# Altium integrated library ON Semi Audio Transistors.IntLib: 150 symbols (part 1 of 4)
Pins are listed as number, name and electrical type; pins without a type are passive.

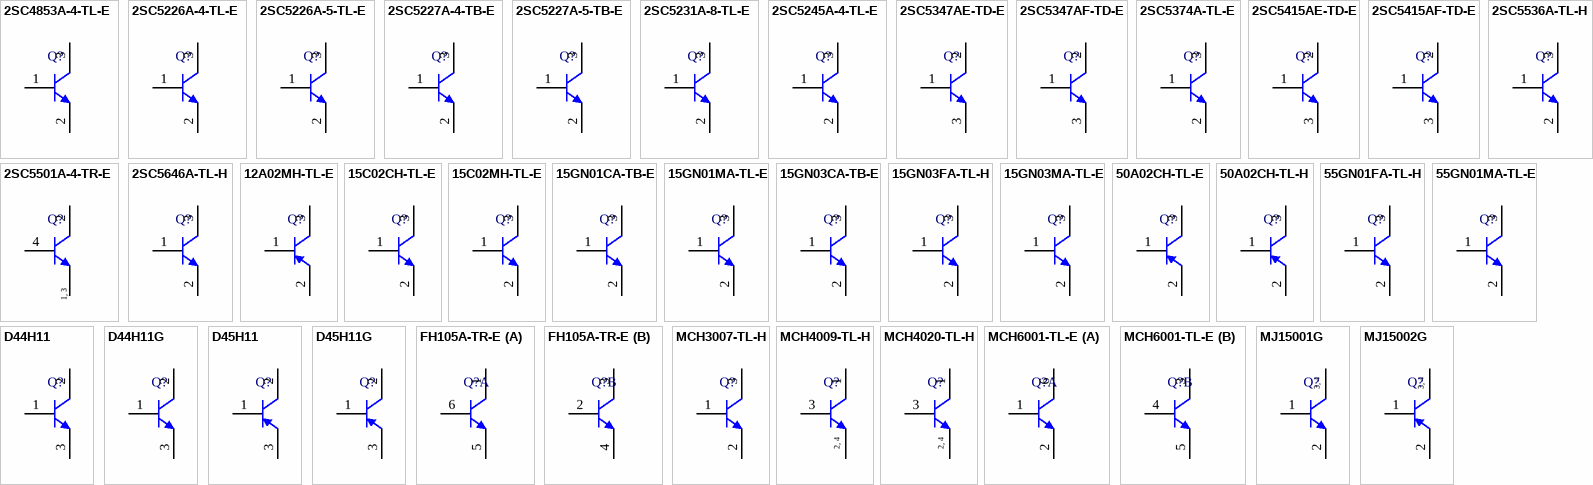
[diagram p0: symbols 2SC4853A-4-TL-E to MJ15002G]

## 2SC4853A-4-TL-E
designator Q?
RF Transistor, 6 V, 15 mA, fT=5 GHz, NPN Single, 3-Pin MCP, Pb-Free, Tape and Reel; Manufacturer: On Semiconductor; PartNumber: 2SC4853A-4-TL-E; hFE Max: 180; IC Continuous (A): 0.015; PackageReference: MCP-3; PackageDescription: 3-Pin Small Outline Transistor, Body 2 x 1.25 mm, Pitch 0.65 mm; Supplier 1: Digi-Key; Supplier Part Number 1: 2SC4853A-4-TL-E-ND; Supplier 2: Newark; Supplier Part Number 2: 07W7670; Supplier 3: Mouser; Supplier Part Number 3: 863-2SC4853A-4-TL-E; Packing: Tape and Reel; Polarity: NPN; RoHS: TRUE; Mounting Technology: Surface Mount; ComponentLink1Description: Manufacturer URL; ComponentLink1URL: http://www.onsemi.com/; ComponentLink2Description: Datasheet; ComponentLink2URL: http://www.onsemi.com/pub_link/Collateral/ENA1076-D.PDF; ComponentLink3Description: Package Specification; ComponentLink3URL: http://www.onsemi.com/pub_link/Collateral/3LP01M-D.PDF
footprint ONSC-MCP-3_V (SOT23, 3-Leads, Body 2.2x1.35mm, Pitch 0.65mm)
pins: 1 B, 2 E, 3 C

## 2SC5226A-4-TL-E
designator Q?
RF Transistor, 10 V, 70 mA, fT=7 GHz, NPN Single, 3-Pin MCP, Pb-Free, Tape and Reel; Manufacturer: On Semiconductor; PartNumber: 2SC5226A-4-TL-E; fT Min (MHz): 5000; hFE Max: 180; IC Continuous (A): 0.07; PackageReference: MCP-3; PackageDescription: 3-Pin Small Outline Transistor, Body 2 x 1.25 mm, Pitch 0.65 mm; Supplier 1: Digi-Key; Supplier Part Number 1: 2SC5226A-4-TL-E-ND; Supplier 2: Mouser; Supplier Part Number 2: 863-2SC5226A-4-TL-E; Packing: Tape and Reel; Polarity: NPN; RoHS: TRUE; Mounting Technology: Surface Mount; ComponentLink1Description: Manufacturer URL; ComponentLink1URL: http://www.onsemi.com/; ComponentLink2Description: Datasheet; ComponentLink2URL: http://www.onsemi.com/pub_link/Collateral/2SC5226A-D.PDF; ComponentLink3Description: Package Specification; ComponentLink3URL: http://www.onsemi.com/pub_link/Collateral/3LP01M-D.PDF
footprint ONSC-MCP-3_V (SOT23, 3-Leads, Body 2.2x1.35mm, Pitch 0.65mm)
pins: 1 B, 2 E, 3 C

## 2SC5226A-5-TL-E
designator Q?
RF Transistor, 10 V, 70 mA, fT=7 GHz, NPN Single, 3-Pin MCP, Pb-Free, Tape and Reel; Manufacturer: On Semiconductor; PartNumber: 2SC5226A-5-TL-E; fT Min (MHz): 5000; hFE Max: 270; IC Continuous (A): 0.07; PackageReference: MCP-3; PackageDescription: 3-Pin Small Outline Transistor, Body 2 x 1.25 mm, Pitch 0.65 mm; Supplier 1: Digi-Key; Supplier Part Number 1: 2SC5226A-5-TL-E-ND; Supplier 2: Mouser; Supplier Part Number 2: 863-2SC5226A-5-TL-E; Packing: Tape and Reel; Polarity: NPN; RoHS: TRUE; Mounting Technology: Surface Mount; ComponentLink1Description: Manufacturer URL; ComponentLink1URL: http://www.onsemi.com/; ComponentLink2Description: Datasheet; ComponentLink2URL: http://www.onsemi.com/pub_link/Collateral/2SC5226A-D.PDF; ComponentLink3Description: Package Specification; ComponentLink3URL: http://www.onsemi.com/pub_link/Collateral/3LP01M-D.PDF
footprint ONSC-MCP-3_V (SOT23, 3-Leads, Body 2.2x1.35mm, Pitch 0.65mm)
pins: 1 B, 2 E, 3 C

## 2SC5227A-4-TB-E
designator Q?
RF Transistor, 10 V, 70 mA, fT=7 GHz, NPN Single, 3-Pin CP, Pb-Free, Tape and Reel; Manufacturer: On Semiconductor; PartNumber: 2SC5227A-4-TB-E; fT Min (MHz): 5000; hFE Max: 180; IC Continuous (A): 0.07; PackageReference: CP-3-318AN_A; PackageDescription: 3-Pin Small Outline Transistor, Body 2.9 x 1.5 mm, Pitch 0.95 mm; Supplier 1: Digi-Key; Supplier Part Number 1: 2SC5227A-4-TB-E-ND; Supplier 2: Mouser; Supplier Part Number 2: 863-2SC5227A-4-TB-E; Packing: Tape and Reel; Polarity: NPN; RoHS: TRUE; Mounting Technology: Surface Mount; ComponentLink1Description: Manufacturer URL; ComponentLink1URL: http://www.onsemi.com/; ComponentLink2Description: Datasheet; ComponentLink2URL: http://www.onsemi.com/pub_link/Collateral/2SC5227A-D.PDF; ComponentLink3Description: Package Specification; ComponentLink3URL: http://www.onsemi.com/pub_link/Collateral/EN6619-D.PDF
footprint ONSC-CP-3-318AN_A_V (SOT23, 3-Leads, Body 2.9x1.5mm, Pitch 0.95mm)
pins: 1 B, 2 E, 3 C

## 2SC5227A-5-TB-E
designator Q?
RF Transistor, 10 V, 70 mA, fT=7 GHz, NPN Single, 3-Pin CP, Pb-Free, Tape and Reel; Manufacturer: On Semiconductor; PartNumber: 2SC5227A-5-TB-E; fT Min (MHz): 5000; hFE Max: 270; IC Continuous (A): 0.07; PackageReference: CP-3-318AN_A; PackageDescription: 3-Pin Small Outline Transistor, Body 2.9 x 1.5 mm, Pitch 0.95 mm; Supplier 1: Digi-Key; Supplier Part Number 1: 2SC5227A-5-TB-E-ND; Supplier 2: Newark; Supplier Part Number 2: 52T9075; Supplier 3: Mouser; Supplier Part Number 3: 863-2SC5227A-5-TB-E; Packing: Tape and Reel; Polarity: NPN; RoHS: TRUE; Mounting Technology: Surface Mount; ComponentLink1Description: Manufacturer URL; ComponentLink1URL: http://www.onsemi.com/; ComponentLink2Description: Datasheet; ComponentLink2URL: http://www.onsemi.com/pub_link/Collateral/2SC5227A-D.PDF; ComponentLink3Description: Package Specification; ComponentLink3URL: http://www.onsemi.com/pub_link/Collateral/EN6619-D.PDF
footprint ONSC-CP-3-318AN_A_V (SOT23, 3-Leads, Body 2.9x1.5mm, Pitch 0.95mm)
pins: 1 B, 2 E, 3 C

## 2SC5231A-8-TL-E
designator Q?
RF Transistor, 10 V, 70 mA, fT=7 GHz, NPN Single, 3-Pin SMCP, Pb-Free, Tape and Reel; Manufacturer: On Semiconductor; PartNumber: 2SC5231A-8-TL-E; fT Min (MHz): 5000; hFE Max: 180; IC Continuous (A): 0.07; PackageReference: SMCP-3; PackageDescription: 3-Pin Small Outline Transistor, Body 1.6 x 0.8 mm, Pitch 0.5 mm; Supplier 1: Digi-Key; Supplier Part Number 1: 2SC5231A-8-TL-E-ND; Supplier 2: Mouser; Supplier Part Number 2: 863-2SC5231A-8-TL-E; Packing: Tape and Reel; Polarity: NPN; RoHS: TRUE; Mounting Technology: Surface Mount; ComponentLink1Description: Manufacturer URL; ComponentLink1URL: http://www.onsemi.com/; ComponentLink2Description: Datasheet; ComponentLink2URL: http://www.onsemi.com/pub_link/Collateral/ENA1077-D.PDF; ComponentLink3Description: Package Specification; ComponentLink3URL: http://www.onsemi.com/pub_link/Collateral/3LN01S-D.PDF
footprint ONSC-SMCP-3_V (SOT23, 3-Leads, Body 1.6x0.8mm, Pitch 0.5mm)
pins: 1 B, 2 E, 3 C

## 2SC5245A-4-TL-E
designator Q?
RF Transistor, 10 V, 30 mA, fT=8 GHz, NPN Single, 3-Pin MCP, Pb-Free, Tape and Reel; Manufacturer: On Semiconductor; PartNumber: 2SC5245A-4-TL-E; fT Min (MHz): 5000; hFE Max: 180; IC Continuous (A): 0.03; PackageReference: MCP-3; PackageDescription: 3-Pin Small Outline Transistor, Body 2 x 1.25 mm, Pitch 0.65 mm; Supplier 1: Digi-Key; Supplier Part Number 1: 2SC5245A-4-TL-E-ND; Supplier 2: Mouser; Supplier Part Number 2: 863-2SC5245A-4-TL-E; Packing: Tape and Reel; Polarity: NPN; RoHS: TRUE; Mounting Technology: Surface Mount; ComponentLink1Description: Manufacturer URL; ComponentLink1URL: http://www.onsemi.com/; ComponentLink2Description: Datasheet; ComponentLink2URL: http://www.onsemi.com/pub_link/Collateral/2SC5245A-D.PDF; ComponentLink3Description: Package Specification; ComponentLink3URL: http://www.onsemi.com/pub_link/Collateral/3LP01M-D.PDF
footprint ONSC-MCP-3_V (SOT23, 3-Leads, Body 2.2x1.35mm, Pitch 0.65mm)
pins: 1 B, 2 E, 3 C

## 2SC5347AE-TD-E
designator Q?
RF Transistor, 12 V, 150 mA, fT=4.7 GHz, NPN Single, 3-Pin SOT-89, Pb-Free, Tape and Reel; Manufacturer: On Semiconductor; PartNumber: 2SC5347AE-TD-E; fT Min (MHz): 3000; hFE Max: 180; IC Continuous (A): 0.15; PackageVersion: Rev. O, 04/2012; PackageReference: SOT-89_PCP-1-3-419AU; PackageDescription: 3-Pin Small Outline Transistor, Body 4.5 x 2.5 mm, Pitch 1.5 mm; Supplier 1: Digi-Key; Supplier Part Number 1: 2SC5347AE-TD-E-ND; Supplier 2: Mouser; Supplier Part Number 2: 863-2SC5347AE-TD-E; Packing: Tape and Reel; Polarity: NPN; RoHS: TRUE; Mounting Technology: Surface Mount; ComponentLink1Description: Manufacturer URL; ComponentLink1URL: http://www.onsemi.com/; ComponentLink2Description: Datasheet; ComponentLink2URL: http://www.onsemi.com/pub_link/Collateral/ENA1087-D.PDF; ComponentLink3Description: Package Specification; ComponentLink3URL: http://www.onsemi.com/pub_link/Collateral/ENA1087-D.PDF
footprint ONSC-SOT-89_PCP-1-3-419AU_V (SOT89, 3-Leads, Body 4.5x2.5mm, Pitch 1.5mm)
pins: 1 B, 2 C, 3 E

## 2SC5347AF-TD-E
designator Q?
RF Transistor, 12 V, 150 mA, fT=4.7 GHz, NPN Single, 3-Pin SOT-89, Pb-Free, Tape and Reel; Manufacturer: On Semiconductor; PartNumber: 2SC5347AF-TD-E; fT Min (MHz): 3000; hFE Max: 270; IC Continuous (A): 0.15; PackageVersion: Rev. O, 04/2012; PackageReference: SOT-89_PCP-1-3-419AU; PackageDescription: 3-Pin Small Outline Transistor, Body 4.5 x 2.5 mm, Pitch 1.5 mm; Supplier 1: Digi-Key; Supplier Part Number 1: 2SC5347AF-TD-E-ND; Supplier 2: Mouser; Supplier Part Number 2: 863-2SC5347AF-TD-E; Packing: Tape and Reel; Polarity: NPN; RoHS: TRUE; Mounting Technology: Surface Mount; ComponentLink1Description: Manufacturer URL; ComponentLink1URL: http://www.onsemi.com/; ComponentLink2Description: Datasheet; ComponentLink2URL: http://www.onsemi.com/pub_link/Collateral/ENA1087-D.PDF; ComponentLink3Description: Package Specification; ComponentLink3URL: http://www.onsemi.com/pub_link/Collateral/ENA1087-D.PDF
footprint ONSC-SOT-89_PCP-1-3-419AU_V (SOT89, 3-Leads, Body 4.5x2.5mm, Pitch 1.5mm)
pins: 1 B, 2 C, 3 E

## 2SC5374A-TL-E
designator Q?
RF Transistor, 10 V, 100 mA, fT=5.2 GHz, NPN Single, 3-Pin SMCP, Pb-Free, Tape and Reel; Manufacturer: On Semiconductor; PartNumber: 2SC5374A-TL-E; fT Min (MHz): 3000; hFE Max: 180; IC Continuous (A): 0.1; PackageReference: SMCP-3; PackageDescription: 3-Pin SOT223, Body 0.8 x 1.6 mm, Pitch 0.5 mm; Supplier 1: Digi-Key; Supplier Part Number 1: 2SC5374A-TL-E-ND; Supplier 2: Mouser; Supplier Part Number 2: 863-2SC5374A-TL-E; Packing: Tape and Reel; Polarity: NPN; RoHS: TRUE; Mounting Technology: Surface Mount; ComponentLink1Description: Manufacturer URL; ComponentLink1URL: http://www.onsemi.com/; ComponentLink2Description: Datasheet; ComponentLink2URL: http://www.onsemi.com/pub_link/Collateral/ENA1090-D.PDF; ComponentLink3Description: Package Specification; ComponentLink3URL: http://www.onsemi.com/pub_link/Collateral/3LN01S-D.PDF
footprint ONSC-SMCP-3_V (SOT23, 3-Leads, Body 1.6x0.8mm, Pitch 0.5mm)
pins: 1 B, 2 E, 3 C

## 2SC5415AE-TD-E
designator Q?
RF Transistor, 12 V, 100 mA, fT=6.7 GHz, NPN Single, 3-Pin SOT-89, Pb-Free, Tape and Reel; Manufacturer: On Semiconductor; PartNumber: 2SC5415AE-TD-E; fT Min (MHz): 5000; hFE Max: 180; IC Continuous (A): 0.1; PackageVersion: Rev. O, 04/2012; PackageReference: SOT-89_PCP-1-3-419AU; PackageDescription: 3-Pin Small Outline Transistor, Body 4.5 x 2.5 mm, Pitch 1.5 mm; Supplier 1: Digi-Key; Supplier Part Number 1: 2SC5415AE-TD-E-ND; Supplier 2: Mouser; Supplier Part Number 2: 863-2SC5415AE-TD-E; Packing: Tape and Reel; Polarity: NPN; RoHS: TRUE; Mounting Technology: Surface Mount; ComponentLink1Description: Manufacturer URL; ComponentLink1URL: http://www.onsemi.com/; ComponentLink2Description: Datasheet; ComponentLink2URL: http://www.onsemi.com/pub_link/Collateral/ENA1080-D.PDF; ComponentLink3Description: Package Specification; ComponentLink3URL: http://www.onsemi.com/pub_link/Collateral/ENA1087-D.PDF
footprint ONSC-SOT-89_PCP-1-3-419AU_V (SOT89, 3-Leads, Body 4.5x2.5mm, Pitch 1.5mm)
pins: 1 B, 2 C, 3 E

## 2SC5415AF-TD-E
designator Q?
RF Transistor, 12 V, 100 mA, fT=6.7 GHz, NPN Single, 3-Pin SOT-89, Pb-Free, Tape and Reel; Manufacturer: On Semiconductor; PartNumber: 2SC5415AF-TD-E; fT Min (MHz): 5000; hFE Max: 270; IC Continuous (A): 0.1; PackageVersion: Rev. O, 04/2012; PackageReference: SOT-89_PCP-1-3-419AU; PackageDescription: 3-Pin Small Outline Transistor, Body 4.5 x 2.5 mm, Pitch 1.5 mm; Supplier 1: Newark; Supplier Part Number 1: 45W5067; Supplier 2: Mouser; Supplier Part Number 2: 863-2SC5415AF-TD-E; Packing: Tape and Reel; Polarity: NPN; RoHS: TRUE; Mounting Technology: Surface Mount; ComponentLink1Description: Manufacturer URL; ComponentLink1URL: http://www.onsemi.com/; ComponentLink2Description: Datasheet; ComponentLink2URL: http://www.onsemi.com/pub_link/Collateral/ENA1080-D.PDF; ComponentLink3Description: Package Specification; ComponentLink3URL: http://www.onsemi.com/pub_link/Collateral/ENA1087-D.PDF
footprint ONSC-SOT-89_PCP-1-3-419AU_V (SOT89, 3-Leads, Body 4.5x2.5mm, Pitch 1.5mm)
pins: 1 B, 2 C, 3 E

## 2SC5501A-4-TR-E
designator Q?
RF Transistor, 10 V, 70 mA, fT=7 GHz, NPN Single, 4-Pin MCP, Pb-Free, Tape and Reel; Manufacturer: On Semiconductor; PartNumber: 2SC5501A-4-TR-E; fT Min (MHz): 5000; hFE Max: 180; IC Continuous (A): 0.07; PackageReference: MCP-4; PackageDescription: 4-Pin Small Outline Transistor, Body 2 x 1.25 mm; Supplier 1: Digi-Key; Supplier Part Number 1: 2SC5501A-4-TR-E-ND; Supplier 2: Mouser; Supplier Part Number 2: 863-2SC5501A-4-TR-E; Packing: Tape and Reel; Polarity: NPN; RoHS: TRUE; Mounting Technology: Surface Mount; ComponentLink1Description: Manufacturer URL; ComponentLink1URL: http://www.onsemi.com/; ComponentLink2Description: Datasheet; ComponentLink2URL: http://www.onsemi.com/pub_link/Collateral/ENA1061-D.PDF; ComponentLink3Description: Package Specification; ComponentLink3URL: http://www.onsemi.com/pub_link/Collateral/ENA1061-D.PDF
footprint ONSC-MCP-4_V (SOT143, 4-Leads, Body 2x1.25mm)
pins: 1 E, 2 C, 3 E, 4 B
text: 1, 3

## 2SC5536A-TL-H
designator Q?
RF Transistor, 12 V, 50 mA, fT=1.7 GHz, NPN Single, 3-Pin SSFP, Pb-Free, Tape and Reel; Manufacturer: On Semiconductor; PartNumber: 2SC5536A-TL-H; fT Min (MHz): 1000; hFE Max: 200; IC Continuous (A): 0.05; PackageReference: SSFP-3; PackageDescription: 3-Pin Small Outline Transistor, Body 1.4 x 0.8 mm, Pitch 0.45 mm; Supplier 1: Digi-Key; Supplier Part Number 1: 2SC5536A-TL-H-ND; Supplier 2: Mouser; Supplier Part Number 2: 863-2SC5536A-TL-H; Packing: Tape and Reel; Polarity: NPN; RoHS: TRUE; Mounting Technology: Surface Mount; ComponentLink1Description: Manufacturer URL; ComponentLink1URL: http://www.onsemi.com/; ComponentLink2Description: Datasheet; ComponentLink2URL: http://www.onsemi.com/pub_link/Collateral/ENA1092-D.PDF; ComponentLink3Description: Package Specification; ComponentLink3URL: http://www.onsemi.com/pub_link/Collateral/55GN01FA.PDF
footprint ONSC-SSFP-3_V (SOT23, 3-Leads, Body 1.4x0.8mm, Pitch 0.45mm)
pins: 1 B, 2 E, 3 C

## 2SC5646A-TL-H
designator Q?
RF Transistor, 4 V, 30 mA, fT=12.5 GHz, NPN Single, 3-Pin SSFP, Pb-Free, Tape and Reel; Manufacturer: On Semiconductor; PartNumber: 2SC5646A-TL-H; fT Min (MHz): 8000; hFE Max: 160; IC Continuous (A): 0.03; PackageReference: SSFP-3; PackageDescription: 3-Pin Small Outline Transistor, Body 1.4 x 0.8 mm, Pitch 0.45 mm; Supplier 1: Digi-Key; Supplier Part Number 1: 2SC5646A-TL-H-ND; Supplier 2: Newark; Supplier Part Number 2: 07W7678; Supplier 3: Mouser; Supplier Part Number 3: 863-2SC5646A-TL-H; Packing: Tape and Reel; Polarity: NPN; RoHS: TRUE; Mounting Technology: Surface Mount; ComponentLink1Description: Manufacturer URL; ComponentLink1URL: http://www.onsemi.com/; ComponentLink2Description: Datasheet; ComponentLink2URL: http://www.onsemi.com/pub_link/Collateral/ENA1120-D.PDF; ComponentLink3Description: Package Specification; ComponentLink3URL: http://www.onsemi.com/pub_link/Collateral/55GN01FA.PDF
footprint ONSC-SSFP-3_V (SOT23, 3-Leads, Body 1.4x0.8mm, Pitch 0.45mm)
pins: 1 B, 2 E, 3 C

## 12A02MH-TL-E
designator Q?
Bipolar Transistor, -12 V, -1 A, Low VCE(sat) PNP Single, 3-Pin MCPH, Pb-Free, Tape and Reel; Manufacturer: On Semiconductor; PartNumber: 12A02MH-TL-E; hFE Max: 700; PackageReference: MCPH-3; PackageDescription: 3-Pin Small Outline Transistor, Body 2 x 1.6 mm, Pitch 0.65 mm; Supplier 1: Digi-Key; Supplier Part Number 1: 12A02MH-TL-E-ND; Supplier 2: Mouser; Supplier Part Number 2: 863-12A02MH-TL-E; IC Continuous (A): -1; Packing: Tape and Reel; Polarity: PNP; RoHS: TRUE; Mounting Technology: Surface Mount; ComponentLink1Description: Manufacturer URL; ComponentLink1URL: http://www.onsemi.com/; ComponentLink2Description: Datasheet; ComponentLink2URL: http://www.onsemi.com/pub_link/Collateral/ENN7483-D.PDF; ComponentLink3Description: Package Specification; ComponentLink3URL: http://www.onsemi.com/pub_link/Collateral/EN7354-D.PDF
footprint ONSC-MCPH-3_V (SOT23, 3-Leads, Body 2x1.6mm, Pitch 0.65mm)
pins: 1 B, 2 E, 3 C

## 15C02CH-TL-E
designator Q?
Bipolar Transistor, 15 V, 1 A, Low VCE(sat) NPN Single, 3-Pin CPH, Pb-Free, Tape and Reel; Manufacturer: On Semiconductor; PartNumber: 15C02CH-TL-E; hFE Max: 800; IC Continuous (A): 1; PackageReference: CPH-3; PackageDescription: 3-Pin Small Outline Transistor, Body 2.9 x 1.6 mm, Pitch 0.95 mm; Supplier 1: Digi-Key; Supplier Part Number 1: 15C02CH-TL-E-ND; Supplier 2: Mouser; Supplier Part Number 2: 863-15C02CH-TL-E; Packing: Tape and Reel; Polarity: NPN; RoHS: TRUE; Mounting Technology: Surface Mount; ComponentLink1Description: Manufacturer URL; ComponentLink1URL: http://www.onsemi.com/; ComponentLink2Description: Datasheet; ComponentLink2URL: http://www.onsemi.com/pub_link/Collateral/EN7353-D.PDF; ComponentLink3Description: Package Specification; ComponentLink3URL: http://www.onsemi.com/pub_link/Collateral/50A02CH-D.PDF
footprint ONSC-CPH-3_V (SOT23, 3-Leads, Body 2.9x1.6mm, Pitch 0.95mm)
pins: 1 B, 2 E, 3 C

## 15C02MH-TL-E
designator Q?
Bipolar Transistor, 15 V, 1 A, Low VCE(sat) NPN Single, 3-Pin MCPH, Pb-Free, Tape and Reel; Manufacturer: On Semiconductor; PartNumber: 15C02MH-TL-E; hFE Max: 800; IC Continuous (A): 1; PackageReference: MCPH-3; PackageDescription: 3-Pin Small Outline Transistor, Body 2 x 1.6 mm, Pitch 0.65 mm; Supplier 1: Digi-Key; Supplier Part Number 1: 15C02MH-TL-E-ND; Supplier 2: Mouser; Supplier Part Number 2: 863-15C02MH-TL-E; Packing: Tape and Reel; Polarity: NPN; RoHS: TRUE; Mounting Technology: Surface Mount; ComponentLink1Description: Manufacturer URL; ComponentLink1URL: http://www.onsemi.com/; ComponentLink2Description: Datasheet; ComponentLink2URL: http://www.onsemi.com/pub_link/Collateral/EN7354-D.PDF; ComponentLink3Description: Package Specification; ComponentLink3URL: http://www.onsemi.com/pub_link/Collateral/EN7354-D.PDF
footprint ONSC-MCPH-3_V (SOT23, 3-Leads, Body 2x1.6mm, Pitch 0.65mm)
pins: 1 B, 2 E, 3 C

## 15GN01CA-TB-E
designator Q?
RF Transistor, 8 V, 50 mA, fT=1.5 GHz, NPN Single, 3-Pin CP, Pb-Free, Tape and Reel; Manufacturer: On Semiconductor; PartNumber: 15GN01CA-TB-E; fT Min (MHz): 1000; hFE Max: 400; IC Continuous (A): 0.05; PackageReference: CP-3-318AN_A; PackageDescription: 3-Pin Small Outline Transistor, Body 2.9 x 1.5 mm, Pitch 0.95 mm; Supplier 1: Digi-Key; Supplier Part Number 1: 15GN01CA-TB-E-ND; Supplier 2: Mouser; Supplier Part Number 2: 863-15GN01CA-TB-E; Packing: Tape and Reel; Polarity: NPN; RoHS: TRUE; Mounting Technology: Surface Mount; ComponentLink1Description: Manufacturer URL; ComponentLink1URL: http://www.onsemi.com/; ComponentLink2Description: Datasheet; ComponentLink2URL: http://www.onsemi.com/pub_link/Collateral/ENA1098-D.PDF; ComponentLink3Description: Package Specification; ComponentLink3URL: http://www.onsemi.com/pub_link/Collateral/EN6619-D.PDF
footprint ONSC-CP-3-318AN_A_V (SOT23, 3-Leads, Body 2.9x1.5mm, Pitch 0.95mm)
pins: 1 B, 2 E, 3 C

## 15GN01MA-TL-E
designator Q?
RF Transistor, 8 V, 50 mA, fT=1.5 GHz, NPN Single, 3-Pin MCP, Pb-Free, Tape and Reel; Manufacturer: On Semiconductor; PartNumber: 15GN01MA-TL-E; fT Min (MHz): 1000; hFE Max: 400; IC Continuous (A): 0.05; PackageReference: MCP-3; PackageDescription: 3-Pin Small Outline Transistor, Body 2 x 1.25 mm, Pitch 0.65 mm; Supplier 1: Digi-Key; Supplier Part Number 1: 15GN01MA-TL-E-ND; Supplier 2: Mouser; Supplier Part Number 2: 863-15GN01MA-TL-E; Packing: Tape and Reel; Polarity: NPN; RoHS: TRUE; Mounting Technology: Surface Mount; ComponentLink1Description: Manufacturer URL; ComponentLink1URL: http://www.onsemi.com/; ComponentLink2Description: Datasheet; ComponentLink2URL: http://www.onsemi.com/pub_link/Collateral/ENA1100-D.PDF; ComponentLink3Description: Package Specification; ComponentLink3URL: http://www.onsemi.com/pub_link/Collateral/3LP01M-D.PDF
footprint ONSC-MCP-3_V (SOT23, 3-Leads, Body 2.2x1.35mm, Pitch 0.65mm)
pins: 1 B, 2 E, 3 C

## 15GN03CA-TB-E
designator Q?
RF Transistor, 10 V, 70 mA, fT=1.5 GHz, NPN Single, 3-Pin CP, Pb-Free, Tape and Reel; Manufacturer: On Semiconductor; PartNumber: 15GN03CA-TB-E; fT Min (MHz): 1000; hFE Max: 180; IC Continuous (A): 0.07; PackageReference: CP-3-318AN_A; PackageDescription: 3-Pin Small Outline Transistor, Body 2.9 x 1.5 mm, Pitch 0.95 mm; Supplier 1: Digi-Key; Supplier Part Number 1: 15GN03CA-TB-E-ND; Supplier 2: Mouser; Supplier Part Number 2: 863-15GN03CA-TB-E; Packing: Tape and Reel; Polarity: NPN; RoHS: TRUE; Mounting Technology: Surface Mount; ComponentLink1Description: Manufacturer URL; ComponentLink1URL: http://www.onsemi.com/; ComponentLink2Description: Datasheet; ComponentLink2URL: http://www.onsemi.com/pub_link/Collateral/ENA1106-D.PDF; ComponentLink3Description: Package Specification; ComponentLink3URL: http://www.onsemi.com/pub_link/Collateral/EN6619-D.PDF
footprint ONSC-CP-3-318AN_A_V (SOT23, 3-Leads, Body 2.9x1.5mm, Pitch 0.95mm)
pins: 1 B, 2 E, 3 C

## 15GN03FA-TL-H
designator Q?
RF Transistor, 10 V, 70 mA, fT=1.5 GHz, NPN Single, 3-Pin SSFP, Pb-Free, Tape and Reel; Manufacturer: On Semiconductor; PartNumber: 15GN03FA-TL-H; fT Min (MHz): 1000; hFE Max: 180; IC Continuous (A): 0.07; PackageReference: SSFP-3; PackageDescription: 3-Pin Small Outline Transistor, Body 1.4 x 0.8 mm, Pitch 0.45 mm; Supplier 1: Digi-Key; Supplier Part Number 1: 15GN03FA-TL-H-ND; Supplier 2: Mouser; Supplier Part Number 2: 863-15GN03FA-TL-H; Packing: Tape and Reel; Polarity: NPN; RoHS: TRUE; Mounting Technology: Surface Mount; ComponentLink1Description: Manufacturer URL; ComponentLink1URL: http://www.onsemi.com/; ComponentLink2Description: Datasheet; ComponentLink2URL: http://www.onsemi.com/pub_link/Collateral/ENA1107-D.PDF; ComponentLink3Description: Package Specification; ComponentLink3URL: http://www.onsemi.com/pub_link/Collateral/55GN01FA.PDF
footprint ONSC-SSFP-3_V (SOT23, 3-Leads, Body 1.4x0.8mm, Pitch 0.45mm)
pins: 1 B, 2 E, 3 C

## 15GN03MA-TL-E
designator Q?
RF Transistor, 10 V, 70 mA, fT=1.5 GHz, NPN Single, 3-Pin MCP, Pb-Free, Tape and Reel; Manufacturer: On Semiconductor; PartNumber: 15GN03MA-TL-E; fT Min (MHz): 1000; hFE Max: 180; IC Continuous (A): 0.07; PackageReference: MCP-3; PackageDescription: 3-Pin Small Outline Transistor, Body 2 x 1.25 mm, Pitch 0.65 mm; Supplier 1: Digi-Key; Supplier Part Number 1: 15GN03MA-TL-E-ND; Supplier 2: Mouser; Supplier Part Number 2: 863-15GN03MA-TL-E; Packing: Tape and Reel; Polarity: NPN; RoHS: TRUE; Mounting Technology: Surface Mount; ComponentLink1Description: Manufacturer URL; ComponentLink1URL: http://www.onsemi.com/; ComponentLink2Description: Datasheet; ComponentLink2URL: http://www.onsemi.com/pub_link/Collateral/ENA1108-D.PDF; ComponentLink3Description: Package Specification; ComponentLink3URL: http://www.onsemi.com/pub_link/Collateral/3LP01M-D.PDF
footprint ONSC-MCP-3_V (SOT23, 3-Leads, Body 2.2x1.35mm, Pitch 0.65mm)
pins: 1 B, 2 E, 3 C

## 50A02CH-TL-E
designator Q?
Bipolar Transistor, -50 V, -0.5 A, Low VCE(sat) PNP Single, 3-Pin CPH, Pb-Free, Tape and Reel; Manufacturer: On Semiconductor; PartNumber: 50A02CH-TL-E; hFE Max: 500; PackageReference: CPH-3; PackageDescription: 3-Pin Small Outline Transistor, Body 2.9 x 1.6 mm, Pitch 0.95 mm; Supplier 1: Digi-Key; Supplier Part Number 1: 50A02CH-TL-E-ND; Supplier 2: Mouser; Supplier Part Number 2: 863-50A02CH-TL-E; IC Continuous (A): -0.5; Packing: Tape and Reel; Polarity: PNP; RoHS: TRUE; Mounting Technology: Surface Mount; ComponentLink1Description: Manufacturer URL; ComponentLink1URL: http://www.onsemi.com/; ComponentLink2Description: Datasheet; ComponentLink2URL: http://www.onsemi.com/pub_link/Collateral/50A02CH-D.PDF; ComponentLink3Description: Package Specification; ComponentLink3URL: http://www.onsemi.com/pub_link/Collateral/50A02CH-D.PDF
footprint ONSC-CPH-3_V (SOT23, 3-Leads, Body 2.9x1.6mm, Pitch 0.95mm)
pins: 1 B, 2 E, 3 C

## 50A02CH-TL-H
designator Q?
Bipolar Transistor, -50 V, -0.5 A, Low VCE(sat) PNP Single, 3-Pin CPH, Pb-Free, Tape and Reel; Manufacturer: On Semiconductor; PartNumber: 50A02CH-TL-H; hFE Max: 500; PackageReference: CPH-3; PackageDescription: 3-Pin Small Outline Transistor, Body 2.9 x 1.6 mm, Pitch 0.95 mm; Supplier 1: Digi-Key; Supplier Part Number 1: 50A02CH-TL-H-ND; Supplier 2: Mouser; Supplier Part Number 2: 863-50A02CH-TL-H; IC Continuous (A): -0.5; Packing: Tape and Reel; Polarity: PNP; RoHS: TRUE; Mounting Technology: Surface Mount; ComponentLink1Description: Manufacturer URL; ComponentLink1URL: http://www.onsemi.com/; ComponentLink2Description: Datasheet; ComponentLink2URL: http://www.onsemi.com/pub_link/Collateral/50A02CH-D.PDF; ComponentLink3Description: Package Specification; ComponentLink3URL: http://www.onsemi.com/pub_link/Collateral/50A02CH-D.PDF
footprint ONSC-CPH-3_V (SOT23, 3-Leads, Body 2.9x1.6mm, Pitch 0.95mm)
pins: 1 B, 2 E, 3 C

## 55GN01FA-TL-H
designator Q?
RF Transistor, 10 V, 70 mA, fT=5.5 GHz, NPN Single, 3-Pin SSFP, Pb-Free, Tape and Reel; Manufacturer: On Semiconductor; PartNumber: 55GN01FA-TL-H; fT Min (MHz): 3000; hFE Max: 160; IC Continuous (A): 0.07; PackageReference: SSFP-3; PackageDescription: 3-Pin Small Outline Transistor, Body 1.4 x 0.8 mm, Pitch 0.45 mm; Supplier 1: Digi-Key; Supplier Part Number 1: 55GN01FA-TL-H-ND; Supplier 2: Mouser; Supplier Part Number 2: 863-55GN01FA-TL-H; Packing: Tape and Reel; Polarity: NPN; RoHS: TRUE; Mounting Technology: Surface Mount; ComponentLink1Description: Manufacturer URL; ComponentLink1URL: http://www.onsemi.com/; ComponentLink2Description: Datasheet; ComponentLink2URL: http://www.onsemi.com/pub_link/Collateral/55GN01FA.PDF; ComponentLink3Description: Package Specification; ComponentLink3URL: http://www.onsemi.com/pub_link/Collateral/55GN01FA.PDF
footprint ONSC-SSFP-3_V (SOT23, 3-Leads, Body 1.4x0.8mm, Pitch 0.45mm)
pins: 1 B, 2 E, 3 C

## 55GN01MA-TL-E
designator Q?
RF Transistor, 10 V, 70 mA, fT=5.5 GHz, NPN Single, 3-Pin MCP, Pb-Free, Tape and Reel; Manufacturer: On Semiconductor; PartNumber: 55GN01MA-TL-E; fT Min (MHz): 3000; hFE Max: 180; IC Continuous (A): 0.07; PackageReference: MCP-3; PackageDescription: 3-Pin Small Outline Transistor, Body 2 x 1.25 mm, Pitch 0.65 mm; Supplier 1: Digi-Key; Supplier Part Number 1: 55GN01MA-TL-E-ND; Supplier 2: Mouser; Supplier Part Number 2: 863-55GN01MA-TL-E; Packing: Tape and Reel; Polarity: NPN; RoHS: TRUE; Mounting Technology: Surface Mount; ComponentLink1Description: Manufacturer URL; ComponentLink1URL: http://www.onsemi.com/; ComponentLink2Description: Datasheet; ComponentLink2URL: http://www.onsemi.com/pub_link/Collateral/ENA1114-D.PDF; ComponentLink3Description: Package Specification; ComponentLink3URL: http://www.onsemi.com/pub_link/Collateral/3LP01M-D.PDF
footprint ONSC-MCP-3_V (SOT23, 3-Leads, Body 2.2x1.35mm, Pitch 0.65mm)
pins: 1 B, 2 E, 3 C

## D44H11
designator Q?
Complementary Silicon Power Transistor, 3-Pin TO-220, Tube; Manufacturer: On Semiconductor; PartNumber: D44H11; IC Continuous (A): 10; Polarity: NPN; DatasheetVersion: Rev. 12; PackageVersion: Rev. AG, 09/2011; PackageReference: TO-220-3-221A-09; PackageDescription: 3-Pin Flange Mount, Vertical Straight Lead, Body 9.97 x 4.445 mm, Pitch 2.54 mm; Supplier 1: Digi-Key; Supplier Part Number 1: D44H11OS-ND; Packing: Tube; RoHS: FALSE; Mounting Technology: Through Hole; ComponentLink1Description: Manufacturer URL; ComponentLink1URL: http://www.onsemi.com/; ComponentLink2Description: Datasheet; ComponentLink2URL: http://www.onsemi.com/pub_link/Collateral/D44H-D.PDF; ComponentLink3Description: Package Specification; ComponentLink3URL: http://www.onsemi.com/pub_link/Collateral/221A-09.PDF
footprint ONSC-TO-220-3-221A-09 (FM, 3-Leads, Body 10.3x4.85mm, Pitch 2.54mm)
pins: 1 B, 2 C, 3 E

## D44H11G
designator Q?
Complementary Silicon Power Transistor, 3-Pin TO-220, Pb-Free, Tube; Manufacturer: On Semiconductor; PartNumber: D44H11G; IC Continuous (A): 10; Polarity: NPN; DatasheetVersion: Rev. 12; PackageVersion: Rev. AG, 09/2011; PackageReference: TO-220-3-221A-09; PackageDescription: 3-Pin Flange Mount, Vertical Straight Lead, Body 9.97 x 4.445 mm, Pitch 2.54 mm; Supplier 1: Digi-Key; Supplier Part Number 1: D44H11GOS-ND; Supplier 2: Farnell; Supplier Part Number 2: 9557156; Supplier 3: Newark; Supplier Part Number 3: 26K3585; Supplier 4: Mouser; Supplier Part Number 4: 863-D44H11G; Packing: Tube; RoHS: TRUE; Mounting Technology: Through Hole; ComponentLink1Description: Manufacturer URL; ComponentLink1URL: http://www.onsemi.com/; ComponentLink2Description: Datasheet; ComponentLink2URL: http://www.onsemi.com/pub_link/Collateral/D44H-D.PDF; ComponentLink3Description: Package Specification; ComponentLink3URL: http://www.onsemi.com/pub_link/Collateral/221A-09.PDF
footprint ONSC-TO-220-3-221A-09 (FM, 3-Leads, Body 10.3x4.85mm, Pitch 2.54mm)
pins: 1 B, 2 C, 3 E

## D45H11
designator Q?
Complementary Silicon Power Transistor, 3-Pin TO-220, Tube; Manufacturer: On Semiconductor; PartNumber: D45H11; IC Continuous (A): 10; Polarity: PNP; DatasheetVersion: Rev. 12; PackageVersion: Rev. AG, 09/2011; PackageReference: TO-220-3-221A-09; PackageDescription: 3-Pin Flange Mount, Vertical Straight Lead, Body 9.97 x 4.445 mm, Pitch 2.54 mm; Supplier 1: Digi-Key; Supplier Part Number 1: D45H11OS-ND; Packing: Tube; RoHS: FALSE; Mounting Technology: Through Hole; ComponentLink1Description: Manufacturer URL; ComponentLink1URL: http://www.onsemi.com/; ComponentLink2Description: Datasheet; ComponentLink2URL: http://www.onsemi.com/pub_link/Collateral/D44H-D.PDF; ComponentLink3Description: Package Specification; ComponentLink3URL: http://www.onsemi.com/pub_link/Collateral/221A-09.PDF
footprint ONSC-TO-220-3-221A-09 (FM, 3-Leads, Body 10.3x4.85mm, Pitch 2.54mm)
pins: 1 B, 2 C, 3 E

## D45H11G
designator Q?
Complementary Silicon Power Transistor, 3-Pin TO-220, Pb-Free, Tube; Manufacturer: On Semiconductor; PartNumber: D45H11G; IC Continuous (A): 10; Polarity: PNP; DatasheetVersion: Rev. 12; PackageVersion: Rev. AG, 09/2011; PackageReference: TO-220-3-221A-09; PackageDescription: 3-Pin Flange Mount, Vertical Straight Lead, Body 9.97 x 4.445 mm, Pitch 2.54 mm; Supplier 1: Digi-Key; Supplier Part Number 1: D45H11GOS-ND; Supplier 2: Farnell; Supplier Part Number 2: 9557164; Supplier 3: Newark; Supplier Part Number 3: 26K3587; Supplier 4: Mouser; Supplier Part Number 4: 863-D45H11G; Packing: Tube; RoHS: TRUE; Mounting Technology: Through Hole; ComponentLink1Description: Manufacturer URL; ComponentLink1URL: http://www.onsemi.com/; ComponentLink2Description: Datasheet; ComponentLink2URL: http://www.onsemi.com/pub_link/Collateral/D44H-D.PDF; ComponentLink3Description: Package Specification; ComponentLink3URL: http://www.onsemi.com/pub_link/Collateral/221A-09.PDF
footprint ONSC-TO-220-3-221A-09 (FM, 3-Leads, Body 10.3x4.85mm, Pitch 2.54mm)
pins: 1 B, 2 C, 3 E

## FH105A-TR-E
designator Q?
RF Transistors, 10 V, 30 mA, fT=8 GHz, NPN Dual, 6-Pin MCP, Pb-Free, Tape and Reel; Manufacturer: On Semiconductor; PartNumber: FH105A-TR-E; fT Min (MHz): 5000; hFE Max: 200; IC Continuous (A): 0.03; PackageReference: MCP-6; PackageDescription: 6-Pin Small Outline Transistor, Body 2 x 1.25 mm, Pitch 0.65 mm; Supplier 1: Digi-Key; Supplier Part Number 1: FH105A-TR-E-ND; Supplier 2: Mouser; Supplier Part Number 2: 863-FH105A-TR-E; Packing: Tape and Reel; Polarity: NPN; RoHS: TRUE; Mounting Technology: Surface Mount; ComponentLink1Description: Manufacturer URL; ComponentLink1URL: http://www.onsemi.com/; ComponentLink2Description: Datasheet; ComponentLink2URL: http://www.onsemi.com/pub_link/Collateral/ENA1126-D.PDF; ComponentLink3Description: Package Specification; ComponentLink3URL: http://www.onsemi.com/pub_link/Collateral/ENA1126-D.PDF
footprint ONSC-MCP-6_V (SOT23, 6-Leads, Body 2x1.25mm, Pitch 0.65mm)
part A pins: 1 C, 5 E, 6 B
part B pins: 2 B, 3 C, 4 E

## MCH3007-TL-H
designator Q?
RF Transistor, 12 V, 30 mA, fT=8 GHz, NPN Single, 3-Pin MCPH, Pb-Free, Tape and Reel; Manufacturer: On Semiconductor; PartNumber: MCH3007-TL-H; fT Min (MHz): 6000; hFE Max: 150; IC Continuous (A): 0.03; PackageReference: MCPH-3; PackageDescription: 3-Pin Small Outline Transistor, Body 2 x 1.6 mm, Pitch 0.65 mm; Supplier 1: Digi-Key; Supplier Part Number 1: MCH3007-TL-H-ND; Supplier 2: Mouser; Supplier Part Number 2: 863-MCH3007-TL-H; Packing: Tape and Reel; Polarity: NPN; RoHS: TRUE; Mounting Technology: Surface Mount; ComponentLink1Description: Manufacturer URL; ComponentLink1URL: http://www.onsemi.com/; ComponentLink2Description: Datasheet; ComponentLink2URL: http://www.onsemi.com/pub_link/Collateral/ENA1925-D.PDF; ComponentLink3Description: Package Specification; ComponentLink3URL: http://www.onsemi.com/pub_link/Collateral/EN7354-D.PDF
footprint ONSC-MCPH-3_V (SOT23, 3-Leads, Body 2x1.6mm, Pitch 0.65mm)
pins: 1 B, 2 E, 3 C

## MCH4009-TL-H
designator Q?
RF Transistor, 3.5 V, 40 mA, fT=25 GHz, NPN Single, 4-Pin MCPH, Pb-Free, Tape and Reel; Manufacturer: On Semiconductor; PartNumber: MCH4009-TL-H; fT Min (MHz): 20000; hFE Max: 120; IC Continuous (A): 0.04; PackageReference: MCPH-4; PackageDescription: 4-Pin Small Outline Transistor, Body 2 x 1.6 mm, Pitch 0.65 mm; Supplier 1: Digi-Key; Supplier Part Number 1: MCH4009-TL-H-ND; Supplier 2: Mouser; Supplier Part Number 2: 863-MCH4009-TL-H; Packing: Tape and Reel; Polarity: NPN; RoHS: TRUE; Mounting Technology: Surface Mount; ComponentLink1Description: Manufacturer URL; ComponentLink1URL: http://www.onsemi.com/; ComponentLink2Description: Datasheet; ComponentLink2URL: http://www.onsemi.com/pub_link/Collateral/ENA0389-D.PDF; ComponentLink3Description: Package Specification; ComponentLink3URL: http://www.onsemi.com/pub_link/Collateral/ENA0389-D.PDF
footprint ONSC-MCPH-4_V (SOT23, 4-Leads, Body 2x1.6mm, Pitch 0.65mm)
pins: 1 C, 2 E, 3 B, 4 E
text: 2, 4

## MCH4020-TL-H
designator Q?
RF Transistor, 8 V, 150 mA, fT=16 GHz, NPN Single, 4-Pin MCPH, Pb-Free, Tape and Reel; Manufacturer: On Semiconductor; PartNumber: MCH4020-TL-H; fT Min (MHz): 13000; hFE Max: 150; IC Continuous (A): 0.15; PackageReference: MCPH-4; PackageDescription: 4-Pin Small Outline Transistor, Body 2 x 1.6 mm, Pitch 0.65 mm; Supplier 1: Digi-Key; Supplier Part Number 1: MCH4020-TL-H-ND; Supplier 2: Mouser; Supplier Part Number 2: 863-MCH4020-TL-H; Packing: Tape and Reel; Polarity: NPN; RoHS: TRUE; Mounting Technology: Surface Mount; ComponentLink1Description: Manufacturer URL; ComponentLink1URL: http://www.onsemi.com/; ComponentLink2Description: Datasheet; ComponentLink2URL: http://www.onsemi.com/pub_link/Collateral/ENA1280-D.PDF; ComponentLink3Description: Package Specification; ComponentLink3URL: http://www.onsemi.com/pub_link/Collateral/ENA0389-D.PDF
footprint ONSC-MCPH-4_V (SOT23, 4-Leads, Body 2x1.6mm, Pitch 0.65mm)
pins: 1 C, 2 E, 3 B, 4 E
text: 2, 4

## MCH6001-TL-E
designator Q?
RF Transistors, 8 V, 150 mA, fT=16 GHz, NPN Dual, 6-Pin MCPH, Pb-Free, Tape and Reel; Manufacturer: On Semiconductor; PartNumber: MCH6001-TL-E; fT Min (MHz): 13000; hFE Max: 150; IC Continuous (A): 0.15; PackageReference: MCPH-6; PackageDescription: 6-Pin Small Outline Transistor, Body 2 x 1.6 mm, Pitch 0.65 mm; Supplier 1: Digi-Key; Supplier Part Number 1: MCH6001-TL-E-ND; Supplier 2: Mouser; Supplier Part Number 2: 863-MCH6001-TL-E; Packing: Tape and Reel; Polarity: NPN; RoHS: TRUE; Mounting Technology: Surface Mount; ComponentLink1Description: Manufacturer URL; ComponentLink1URL: http://www.onsemi.com/; ComponentLink2Description: Datasheet; ComponentLink2URL: http://www.onsemi.com/pub_link/Collateral/ENA1601-D.PDF; ComponentLink3Description: Package Specification; ComponentLink3URL: http://www.onsemi.com/pub_link/Collateral/ENA1601-D.PDF
footprint ONSC-MCPH-6_V (SOT23, 6-Leads, Body 2x1.6mm, Pitch 0.65mm)
part A pins: 1 B, 2 E, 6 C
part B pins: 3 C, 4 B, 5 E

## MJ15001G
designator Q?
Complementary Silicon Power Transistor, 3-Pin TO-204, Pb-Free, Tray; Manufacturer: On Semiconductor; PartNumber: MJ15001G; fT Min (MHz): 2; hFE Max: 150; IC Continuous (A): 15; Polarity: NPN; DatasheetVersion: Rev. 6; PackageVersion: Rev. Z, 05/1988; PackageReference: TO-204-3-1-07; PackageDescription: 2-Pin Transistor Outline, Body 39.37 x 26.67 mm, Pitch 10.92 mm; Supplier 1: Digi-Key; Supplier Part Number 1: MJ15001GOS-ND; Supplier 2: Newark; Supplier Part Number 2: 26K4511; Supplier 3: Mouser; Supplier Part Number 3: 863-MJ15001G; Packing: Tray; RoHS: TRUE; Mounting Technology: Through Hole; ComponentLink1Description: Manufacturer URL; ComponentLink1URL: http://www.onsemi.com/; ComponentLink2Description: Datasheet; ComponentLink2URL: http://www.onsemi.com/pub_link/Collateral/MJ15001-D.PDF; ComponentLink3Description: Package Specification; ComponentLink3URL: http://www.onsemi.com/pub_link/Collateral/1-07.PDF
footprint ONSC-TO-204-3-1-07 (TO-204, Pin Spacing 10.92mm, Lead Dia. 1.09 mm (max))
pins: 1 B, 2 E, 3 C, 4 C
text: 3, 4

## MJ15002G
designator Q?
Complementary Silicon Power Transistor, 3-Pin TO-204, Pb-Free, Tray; Manufacturer: On Semiconductor; PartNumber: MJ15002G; fT Min (MHz): 2; hFE Max: 150; IC Continuous (A): 15; Polarity: PNP; DatasheetVersion: Rev. 6; PackageVersion: Rev. Z, 05/1988; PackageReference: TO-204-3-1-07; PackageDescription: 2-Pin Transistor Outline, Body 39.37 x 26.67 mm, Pitch 10.92 mm; Supplier 1: Digi-Key; Supplier Part Number 1: MJ15002GOS-ND; Supplier 2: Mouser; Supplier Part Number 2: 863-MJ15002G; Packing: Tray; RoHS: TRUE; Mounting Technology: Through Hole; ComponentLink1Description: Manufacturer URL; ComponentLink1URL: http://www.onsemi.com/; ComponentLink2Description: Datasheet; ComponentLink2URL: http://www.onsemi.com/pub_link/Collateral/MJ15001-D.PDF; ComponentLink3Description: Package Specification; ComponentLink3URL: http://www.onsemi.com/pub_link/Collateral/1-07.PDF
footprint ONSC-TO-204-3-1-07 (TO-204, Pin Spacing 10.92mm, Lead Dia. 1.09 mm (max))
pins: 1 B, 2 E, 3 C, 4 C
text: 3, 4

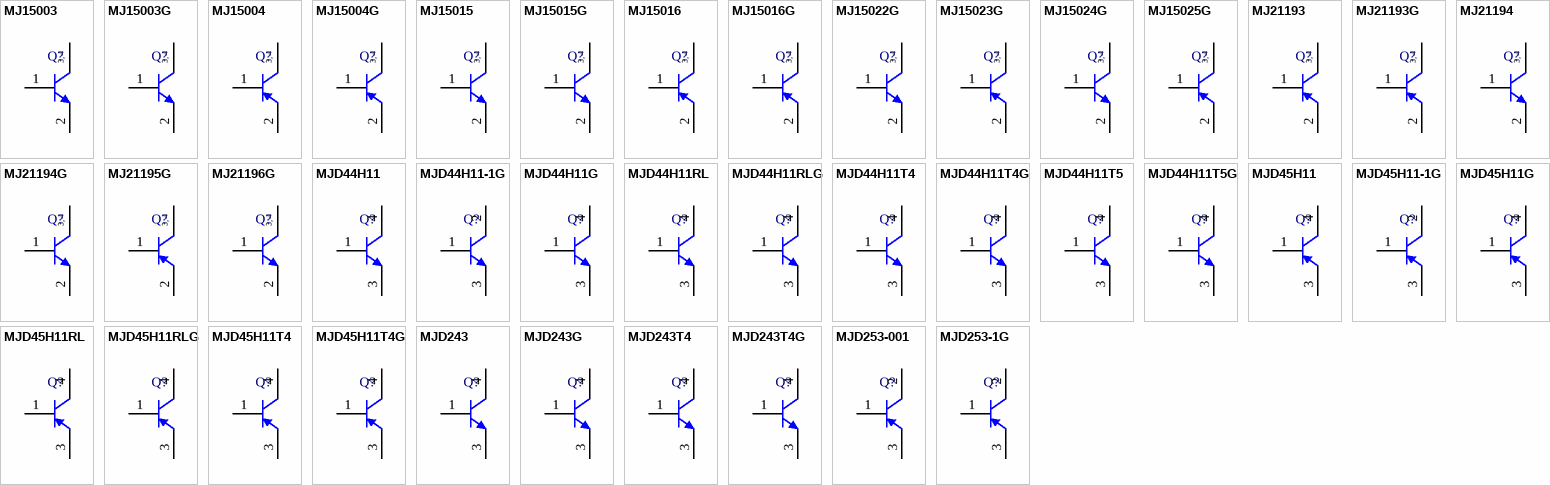
[diagram p1: symbols MJ15003 to MJD253-1G]

## MJ15003
designator Q?
Complementary Silicon Power Transistor, 3-Pin TO-204, Tray; Manufacturer: On Semiconductor; PartNumber: MJ15003; Note: 0; fT Min (MHz): 2; hFE Max: 150; IC Continuous (A): 20; Polarity: NPN; DatasheetVersion: Rev. 16; PackageVersion: Rev. Z, 05/1988; PackageReference: TO-204-3-1-07; PackageDescription: 2-Pin Transistor Outline, Body 39.37 x 26.67 mm, Pitch 10.92 mm; Packing: Tray; RoHS: FALSE; Mounting Technology: Through Hole; ComponentLink1Description: Manufacturer URL; ComponentLink1URL: http://www.onsemi.com/; ComponentLink2Description: Datasheet; ComponentLink2URL: http://www.onsemi.com/pub_link/Collateral/MJ15003-D.PDF; ComponentLink3Description: Package Specification; ComponentLink3URL: http://www.onsemi.com/pub_link/Collateral/1-07.PDF
footprint ONSC-TO-204-3-1-07 (TO-204, Pin Spacing 10.92mm, Lead Dia. 1.09 mm (max))
pins: 1 B, 2 E, 3 C, 4 C
text: 3, 4

## MJ15003G
designator Q?
Complementary Silicon Power Transistor, 3-Pin TO-204, Pb-Free, Tray; Manufacturer: On Semiconductor; PartNumber: MJ15003G; fT Min (MHz): 2; hFE Max: 150; IC Continuous (A): 20; Polarity: NPN; DatasheetVersion: Rev. 16; PackageVersion: Rev. Z, 05/1988; PackageReference: TO-204-3-1-07; PackageDescription: 2-Pin Transistor Outline, Body 39.37 x 26.67 mm, Pitch 10.92 mm; Supplier 1: Digi-Key; Supplier Part Number 1: MJ15003GOS-ND; Supplier 2: Farnell; Supplier Part Number 2: 9556460; Supplier 3: Newark; Supplier Part Number 3: 26K4513; Supplier 4: Mouser; Supplier Part Number 4: 863-MJ15003G; Packing: Tray; RoHS: TRUE; Mounting Technology: Through Hole; ComponentLink1Description: Manufacturer URL; ComponentLink1URL: http://www.onsemi.com/; ComponentLink2Description: Datasheet; ComponentLink2URL: http://www.onsemi.com/pub_link/Collateral/MJ15003-D.PDF; ComponentLink3Description: Package Specification; ComponentLink3URL: http://www.onsemi.com/pub_link/Collateral/1-07.PDF
footprint ONSC-TO-204-3-1-07 (TO-204, Pin Spacing 10.92mm, Lead Dia. 1.09 mm (max))
pins: 1 B, 2 E, 3 C, 4 C
text: 3, 4

## MJ15004
designator Q?
Complementary Silicon Power Transistor, 3-Pin TO-204, Tray; Manufacturer: On Semiconductor; PartNumber: MJ15004; Note: 0; fT Min (MHz): 2; hFE Max: 150; IC Continuous (A): 20; Polarity: PNP; DatasheetVersion: Rev. 16; PackageVersion: Rev. Z, 05/1988; PackageReference: TO-204-3-1-07; PackageDescription: 2-Pin Transistor Outline, Body 39.37 x 26.67 mm, Pitch 10.92 mm; Packing: Tray; RoHS: FALSE; Mounting Technology: Through Hole; ComponentLink1Description: Manufacturer URL; ComponentLink1URL: http://www.onsemi.com/; ComponentLink2Description: Datasheet; ComponentLink2URL: http://www.onsemi.com/pub_link/Collateral/MJ15003-D.PDF; ComponentLink3Description: Package Specification; ComponentLink3URL: http://www.onsemi.com/pub_link/Collateral/1-07.PDF
footprint ONSC-TO-204-3-1-07 (TO-204, Pin Spacing 10.92mm, Lead Dia. 1.09 mm (max))
pins: 1 B, 2 E, 3 C, 4 C
text: 3, 4

## MJ15004G
designator Q?
Complementary Silicon Power Transistor, 3-Pin TO-204, Pb-Free, Tray; Manufacturer: On Semiconductor; PartNumber: MJ15004G; fT Min (MHz): 2; hFE Max: 150; IC Continuous (A): 20; Polarity: PNP; DatasheetVersion: Rev. 16; PackageVersion: Rev. Z, 05/1988; PackageReference: TO-204-3-1-07; PackageDescription: 2-Pin Transistor Outline, Body 39.37 x 26.67 mm, Pitch 10.92 mm; Supplier 1: Digi-Key; Supplier Part Number 1: MJ15004GOS-ND; Supplier 2: Farnell; Supplier Part Number 2: 9556478; Supplier 3: Newark; Supplier Part Number 3: 26K4514; Supplier 4: Mouser; Supplier Part Number 4: 863-MJ15004G; Packing: Tray; RoHS: TRUE; Mounting Technology: Through Hole; ComponentLink1Description: Manufacturer URL; ComponentLink1URL: http://www.onsemi.com/; ComponentLink2Description: Datasheet; ComponentLink2URL: http://www.onsemi.com/pub_link/Collateral/MJ15003-D.PDF; ComponentLink3Description: Package Specification; ComponentLink3URL: http://www.onsemi.com/pub_link/Collateral/1-07.PDF
footprint ONSC-TO-204-3-1-07 (TO-204, Pin Spacing 10.92mm, Lead Dia. 1.09 mm (max))
pins: 1 B, 2 E, 3 C, 4 C
text: 3, 4

## MJ15015
designator Q?
Complementary Silicon High-Power Transistor, 3-Pin TO-204, Tray; Manufacturer: On Semiconductor; PartNumber: MJ15015; Note: 0; fT Min (MHz): 0.8; hFE Max: 70; IC Continuous (A): 15; Polarity: NPN; DatasheetVersion: Rev. 7; PackageVersion: Rev. Z, 05/1988; PackageReference: TO-204-3-1-07; PackageDescription: 2-Pin Transistor Outline, Body 39.37 x 26.67 mm, Pitch 10.92 mm; Packing: Tray; RoHS: FALSE; Mounting Technology: Through Hole; ComponentLink1Description: Manufacturer URL; ComponentLink1URL: http://www.onsemi.com/; ComponentLink2Description: Datasheet; ComponentLink2URL: http://www.onsemi.com/pub_link/Collateral/2N3055A-D.PDF; ComponentLink3Description: Package Specification; ComponentLink3URL: http://www.onsemi.com/pub_link/Collateral/1-07.PDF
footprint ONSC-TO-204-3-1-07 (TO-204, Pin Spacing 10.92mm, Lead Dia. 1.09 mm (max))
pins: 1 B, 2 E, 3 C, 4 C
text: 3, 4

## MJ15015G
designator Q?
Complementary Silicon High-Power Transistor, 3-Pin TO-204, Pb-Free, Tray; Manufacturer: On Semiconductor; PartNumber: MJ15015G; fT Min (MHz): 0.8; hFE Max: 70; IC Continuous (A): 15; Polarity: NPN; DatasheetVersion: Rev. 7; PackageVersion: Rev. Z, 05/1988; PackageReference: TO-204-3-1-07; PackageDescription: 2-Pin Transistor Outline, Body 39.37 x 26.67 mm, Pitch 10.92 mm; Supplier 1: Digi-Key; Supplier Part Number 1: MJ15015GOS-ND; Supplier 2: Farnell; Supplier Part Number 2: 9556486; Supplier 3: Newark; Supplier Part Number 3: 61K0964; Supplier 4: Mouser; Supplier Part Number 4: 863-MJ15015G; Packing: Tray; RoHS: TRUE; Mounting Technology: Through Hole; ComponentLink1Description: Manufacturer URL; ComponentLink1URL: http://www.onsemi.com/; ComponentLink2Description: Datasheet; ComponentLink2URL: http://www.onsemi.com/pub_link/Collateral/2N3055A-D.PDF; ComponentLink3Description: Package Specification; ComponentLink3URL: http://www.onsemi.com/pub_link/Collateral/1-07.PDF
footprint ONSC-TO-204-3-1-07 (TO-204, Pin Spacing 10.92mm, Lead Dia. 1.09 mm (max))
pins: 1 B, 2 E, 3 C, 4 C
text: 3, 4

## MJ15016
designator Q?
Complementary Silicon High-Power Transistor, 3-Pin TO-204, Tray; Manufacturer: On Semiconductor; PartNumber: MJ15016; Note: 0; fT Min (MHz): 2.2; hFE Max: 70; IC Continuous (A): 15; Polarity: PNP; DatasheetVersion: Rev. 7; PackageVersion: Rev. Z, 05/1988; PackageReference: TO-204-3-1-07; PackageDescription: 2-Pin Transistor Outline, Body 39.37 x 26.67 mm, Pitch 10.92 mm; Packing: Tray; RoHS: FALSE; Mounting Technology: Through Hole; ComponentLink1Description: Manufacturer URL; ComponentLink1URL: http://www.onsemi.com/; ComponentLink2Description: Datasheet; ComponentLink2URL: http://www.onsemi.com/pub_link/Collateral/2N3055A-D.PDF; ComponentLink3Description: Package Specification; ComponentLink3URL: http://www.onsemi.com/pub_link/Collateral/1-07.PDF
footprint ONSC-TO-204-3-1-07 (TO-204, Pin Spacing 10.92mm, Lead Dia. 1.09 mm (max))
pins: 1 B, 2 E, 3 C, 4 C
text: 3, 4

## MJ15016G
designator Q?
Complementary Silicon High-Power Transistor, 3-Pin TO-204, Pb-Free, Tray; Manufacturer: On Semiconductor; PartNumber: MJ15016G; fT Min (MHz): 2.2; hFE Max: 70; IC Continuous (A): 15; Polarity: PNP; DatasheetVersion: Rev. 7; PackageVersion: Rev. Z, 05/1988; PackageReference: TO-204-3-1-07; PackageDescription: 2-Pin Transistor Outline, Body 39.37 x 26.67 mm, Pitch 10.92 mm; Supplier 1: Digi-Key; Supplier Part Number 1: MJ15016GOS-ND; Supplier 2: Farnell; Supplier Part Number 2: 9557130; Supplier 3: Newark; Supplier Part Number 3: 42K1316; Supplier 4: Mouser; Supplier Part Number 4: 863-MJ15016G; Packing: Tray; RoHS: TRUE; Mounting Technology: Through Hole; ComponentLink1Description: Manufacturer URL; ComponentLink1URL: http://www.onsemi.com/; ComponentLink2Description: Datasheet; ComponentLink2URL: http://www.onsemi.com/pub_link/Collateral/2N3055A-D.PDF; ComponentLink3Description: Package Specification; ComponentLink3URL: http://www.onsemi.com/pub_link/Collateral/1-07.PDF
footprint ONSC-TO-204-3-1-07 (TO-204, Pin Spacing 10.92mm, Lead Dia. 1.09 mm (max))
pins: 1 B, 2 E, 3 C, 4 C
text: 3, 4

## MJ15022G
designator Q?
Silicon Power Transistor, 3-Pin TO-204, Pb-Free, Tray; Manufacturer: On Semiconductor; PartNumber: MJ15022G; fT Min (MHz): 4; hFE Max: 60; IC Continuous (A): 16; Polarity: NPN; DatasheetVersion: Rev. 12; PackageVersion: Rev. Z, 05/1988; PackageReference: TO-204-3-1-07; PackageDescription: 2-Pin Transistor Outline, Body 39.37 x 26.67 mm, Pitch 10.92 mm; Supplier 1: Digi-Key; Supplier Part Number 1: MJ15022GOS-ND; Supplier 2: Farnell; Supplier Part Number 2: 9557784; Supplier 3: Newark; Supplier Part Number 3: 26K4518; Supplier 4: Mouser; Supplier Part Number 4: 863-MJ15022G; Packing: Tray; RoHS: TRUE; Mounting Technology: Through Hole; ComponentLink1Description: Manufacturer URL; ComponentLink1URL: http://www.onsemi.com/; ComponentLink2Description: Datasheet; ComponentLink2URL: http://www.onsemi.com/pub_link/Collateral/MJ15022-D.PDF; ComponentLink3Description: Package Specification; ComponentLink3URL: http://www.onsemi.com/pub_link/Collateral/1-07.PDF
footprint ONSC-TO-204-3-1-07 (TO-204, Pin Spacing 10.92mm, Lead Dia. 1.09 mm (max))
pins: 1 B, 2 E, 3 C, 4 C
text: 3, 4

## MJ15023G
designator Q?
Silicon Power Transistor, 3-Pin TO-204, Pb-Free, Tray; Manufacturer: On Semiconductor; PartNumber: MJ15023G; fT Min (MHz): 4; hFE Max: 60; IC Continuous (A): 16; Polarity: PNP; DatasheetVersion: Rev. 12; PackageVersion: Rev. Z, 05/1988; PackageReference: TO-204-3-1-07; PackageDescription: 2-Pin Transistor Outline, Body 39.37 x 26.67 mm, Pitch 10.92 mm; Supplier 1: Digi-Key; Supplier Part Number 1: MJ15023GOS-ND; Supplier 2: Farnell; Supplier Part Number 2: 9557792; Supplier 3: Newark; Supplier Part Number 3: 26K4519; Supplier 4: Mouser; Supplier Part Number 4: 863-MJ15023G; Packing: Tray; RoHS: TRUE; Mounting Technology: Through Hole; ComponentLink1Description: Manufacturer URL; ComponentLink1URL: http://www.onsemi.com/; ComponentLink2Description: Datasheet; ComponentLink2URL: http://www.onsemi.com/pub_link/Collateral/MJ15023-D.PDF; ComponentLink3Description: Package Specification; ComponentLink3URL: http://www.onsemi.com/pub_link/Collateral/1-07.PDF
footprint ONSC-TO-204-3-1-07 (TO-204, Pin Spacing 10.92mm, Lead Dia. 1.09 mm (max))
pins: 1 B, 2 E, 3 C, 4 C
text: 3, 4

## MJ15024G
designator Q?
Silicon Power Transistor, 3-Pin TO-204, Pb-Free, Tray; Manufacturer: On Semiconductor; PartNumber: MJ15024G; fT Min (MHz): 4; hFE Max: 60; IC Continuous (A): 16; Polarity: NPN; DatasheetVersion: Rev. 12; PackageVersion: Rev. Z, 05/1988; PackageReference: TO-204-3-1-07; PackageDescription: 2-Pin Transistor Outline, Body 39.37 x 26.67 mm, Pitch 10.92 mm; Supplier 1: Digi-Key; Supplier Part Number 1: MJ15024GOS-ND; Supplier 2: Farnell; Supplier Part Number 2: 9556729; Supplier 3: Newark; Supplier Part Number 3: 26K4520; Supplier 4: Mouser; Supplier Part Number 4: 863-MJ15024G; Packing: Tray; RoHS: TRUE; Mounting Technology: Through Hole; ComponentLink1Description: Manufacturer URL; ComponentLink1URL: http://www.onsemi.com/; ComponentLink2Description: Datasheet; ComponentLink2URL: http://www.onsemi.com/pub_link/Collateral/MJ15022-D.PDF; ComponentLink3Description: Package Specification; ComponentLink3URL: http://www.onsemi.com/pub_link/Collateral/1-07.PDF
footprint ONSC-TO-204-3-1-07 (TO-204, Pin Spacing 10.92mm, Lead Dia. 1.09 mm (max))
pins: 1 B, 2 E, 3 C, 4 C
text: 3, 4